# EAGLE library part IC9148 (library chuong)
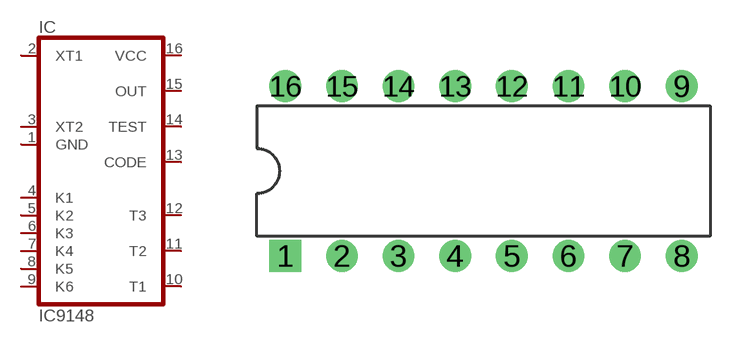
[diagram p15: symbol with the pads of DIL-16; footprint DIL-16]

Designator prefix IC

## IC9148  [DIL-16]
1  GND  in
2  XT1  out
3  XT2  out
4  K1  out
5  K2  out
6  K3  out
7  K4  out
8  K5  out
9  K6  out
10  T1  in
11  T2  in
12  T3  in
13  CODE  in
14  TEST  in
15  OUT  in
16  VCC  in

## Footprint DIL-16 (pad centres in mm)
drill 0.61 pad 1.422 square: 1 -8.89,-3.81
drill 0.61 pad 1.422 round: 2 -6.35,-3.81; 3 -3.81,-3.81; 4 -1.27,-3.81; 5 1.27,-3.81; 6 3.81,-3.81; 7 6.35,-3.81; 8 8.89,-3.81; 9 8.89,3.81; 10 6.35,3.81; 11 3.81,3.81; 12 1.27,3.81; 13 -1.27,3.81; 14 -3.81,3.81; 15 -6.35,3.81; 16 -8.89,3.81